# Altium integrated library WP-BUCF.intlib: 6 symbols
Pins are listed as number, name and electrical type; pins without a type are passive.

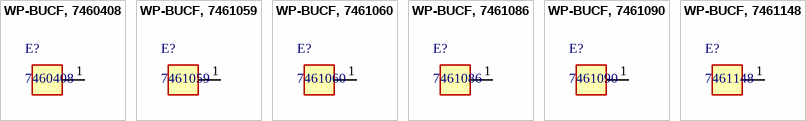
[diagram p0: symbols WP-BUCF, 7460408 to WP-BUCF, 7461148]

## WP-BUCF, 7460408
designator E?, comment 7460408
WP-BUCF Bushes with Circumference Pin Plate, M5, thr 6mm; Manufacturer: Wurth Elektronik; partNo: 7460408; ComponentLink1Description: Manufacturer; ComponentLink1URL: http://www.we-online.de; Created by: Baojun Chen; Created Date: Nov.2015; ComponentLink2Description: Datasheet; ComponentLink2URL: http://katalog.we-online.de/em/datasheet/7460408.pdf
footprint 7460408_Chemical Surface (M5, thr 6mm)
footprint 7460408_HAL Surface (M5, thr 6mm)
pins: 1

## WP-BUCF, 7461059
designator E?, comment 7461059
WP-BUCF Bushes with Circumference Pin Plate, M6, thr 13.5mm; Manufacturer: Wurth Elektronik; partNo: 7461059; ComponentLink1Description: Manufacturer; ComponentLink1URL: http://www.we-online.de; Created by: Baojun Chen; Created Date: Nov.2015; ComponentLink2Description: Datasheet; ComponentLink2URL: http://katalog.we-online.de/em/datasheet/7461059.pdf
footprint 7461059_Chemical Surface (M6, thr 13.5mm)
footprint 7461059_HAL Surface (M6, thr 13.5mm)
pins: 1

## WP-BUCF, 7461060
designator E?, comment 7461060
WP-BUCF Bushes with Circumference Pin Plate, M10, thr 17.5mm; Manufacturer: Wurth Elektronik; partNo: 7461060; ComponentLink1Description: Manufacturer; ComponentLink1URL: http://www.we-online.de; Created by: Baojun Chen; Created Date: Nov.2015; ComponentLink2Description: Datasheet; ComponentLink2URL: http://katalog.we-online.de/em/datasheet/7461060.pdf
footprint 7461060_Chemical Surface (M10, thr 17.5mm)
footprint 7461060_HAL Surface (M10, thr 17.5mm)
pins: 1

## WP-BUCF, 7461086
designator E?, comment 7461086
WP-BUCF Bushes with Circumference Pin Plate, M4, thr 6mm; Manufacturer: Wurth Elektronik; partNo: 7461086; ComponentLink1Description: Manufacturer; ComponentLink1URL: http://www.we-online.de; Created by: Baojun Chen; Created Date: Nov.2015; ComponentLink2Description: Datasheet; ComponentLink2URL: http://katalog.we-online.de/em/datasheet/7461086.pdf
footprint 7461086_Chemical Surface (M4, thr 6mm)
footprint 7461086_HAL Surface (M4, thr 6mm)
pins: 1

## WP-BUCF, 7461090
designator E?, comment 7461090
WP-BUCF Bushes with Circumference Pin Plate, M8, thr 13.5mm; Manufacturer: Wurth Elektronik; partNo: 7461090; ComponentLink1Description: Manufacturer; ComponentLink1URL: http://www.we-online.de; Created by: Baojun Chen; Created Date: Nov.2015; ComponentLink2Description: Datasheet; ComponentLink2URL: http://katalog.we-online.de/em/datasheet/7461090.pdf
footprint 7461090_Chemical Surface (M8, thr 13.5mm)
footprint 7461090_HAL Surface (M8, thr 13.5mm)
pins: 1

## WP-BUCF, 7461148
designator E?, comment 7461148
WP-BUCF Bushes with Circumference Pin Plate, M2.5, thr 6mm; Manufacturer: Wurth Elektronik; partNo: 7461148; ComponentLink1Description: Manufacturer; ComponentLink1URL: http://www.we-online.de; Created by: Baojun Chen; Created Date: Nov.2015; ComponentLink2Description: Datasheet; ComponentLink2URL: http://katalog.we-online.de/em/datasheet/7461148.pdf
footprint 7461148_Chemical Surface (M2.5, thr 6mm)
footprint 7461148_HAL Surface (M2.5, thr 6mm)
pins: 1